# EAGLE library part 6620XX21124_66200821124 (library Wurth_Connectors_WR-MPC3)
WR-MPC3 3.00 mm Male Header Dual Row Right Angled with SMT Solder Tabs - SMT - Selective Gold Kind Properties Pitch 3 mm Rows Dual Type Vertical Operating Temperature -40 up to +105 °C Durability 75 Mating cycles Material Properties Insulator Material LCP Insulator Color Black Insulator Flammability Rating UL94 V-0 Pin Material Copper Alloy Pin Plating Selective Gold Electrical Properties IR 5 A Working Voltage 250 V (AC) Withstanding Voltage 1500 V (AC) Contact Resistance 10 mΩ Packaging Properties Packaging Tube Certification UL Approval E323964 <https://www.we-online.com/components/media/o727035v209%206620xx21122_Multi-Parts.jpg> Details see: www.we-online.com/components/products/WR-MPC3_3_00MM_MALE_HEADER_DUAL_ROW_VERTICAL_THT_SELECTIVE_GOLD <www.we-online.com/catalog/WR-MPC3_3_00MM_MALE_HEADER_DUAL_ROW_VERTICAL_THT_SELECTIVE_GOLD/?utm_source=eagle_model&utm_medium=description_link&utm_campaign=eisos_eagle> Created by Ella Wu 2023-10-12 2023 (C) Würth Elektronik
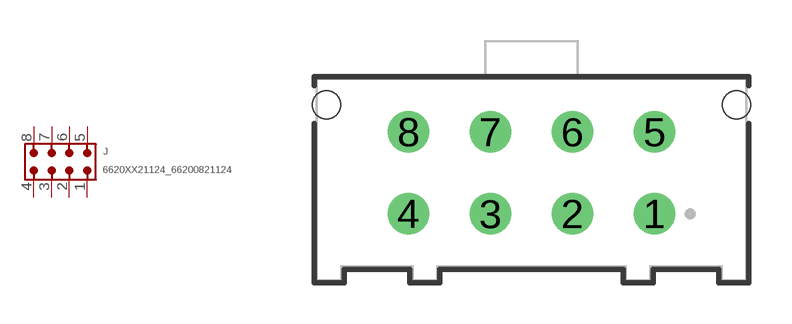
[diagram p143: symbol with the pads of 66200821124; footprint 66200821124]

Designator prefix J

## 6620XX21124_66200821124 (CONTACT-RESISTANCE: 10Ohm; DATASHEET-URL: https://www.we-online.com/redexpert/spec/66200821124?ae; GENDER: Male; IR: 5A; MOUNT: THT; PART-NUMBER: 66200821124; PINS: 8; PITCH: 3mm; ROWS: Dual; TOL-R: max.; TYPE: Vertical; VALUE: 66200821124; WORKING-VOLTAGE: 250V(AC))  [66200821124]
1  1  pas
2  2  pas
3  3  pas
4  4  pas
5  5  pas
6  6  pas
7  7  pas
8  8  pas

## Footprint 66200821124 (pad centres in mm)
WR-MPC3 3.00 mm Male Header Dual Row Vertical - THT - Selective Gold 8 pins
drill 1.02: 1 4.5,-1.5; 2 1.5,-1.5; 3 -1.5,-1.5; 4 -4.5,-1.5; 5 4.5,1.5; 6 1.5,1.5; 7 -1.5,1.5; 8 -4.5,1.5
hole 1.02 at -7.5,2.49
hole 1.02 at 7.5,2.49